# EAGLE library part 43045-24 (library con-molex-micro-fit)
HEADER
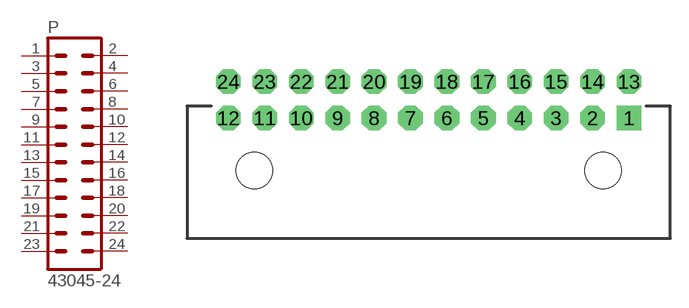
[diagram p9: symbol with the pads of 43045-24; footprint 43045-24]

Designator prefix P

## 43045-24  [43045-24]
1  1  pas
2  2  pas
3  3  pas
4  4  pas
5  5  pas
6  6  pas
7  7  pas
8  8  pas
9  9  pas
10  10  pas
11  11  pas
12  12  pas
13  13  pas
14  14  pas
15  15  pas
16  16  pas
17  17  pas
18  18  pas
19  19  pas
20  20  pas
21  21  pas
22  22  pas
23  23  pas
24  24  pas

## Footprint 43045-24 (pad centres in mm)
HEADER
drill 1.016 pad 2.032 square: 1 16.5,0
drill 1.016 pad 2.032 octagon: 2 13.5,0; 3 10.5,0; 4 7.5,0; 5 4.5,0; 6 1.5,0; 7 -1.5,0; 8 -4.5,0; 9 -7.5,0; 10 -10.5,0; 11 -13.5,0; 12 -16.5,0; 13 16.5,3; 14 13.5,3; 15 10.5,3; 16 7.5,3; 17 4.5,3; 18 1.5,3; 19 -1.5,3; 20 -4.5,3; 21 -7.5,3; 22 -10.5,3; 23 -13.5,3; 24 -16.5,3
hole 3 at -14.35,-4.32
hole 3 at 14.35,-4.32